# Altium schematic symbol library AD.SchLib: 50 symbols
Pins are listed as number, name and electrical type; pins without a type are passive.

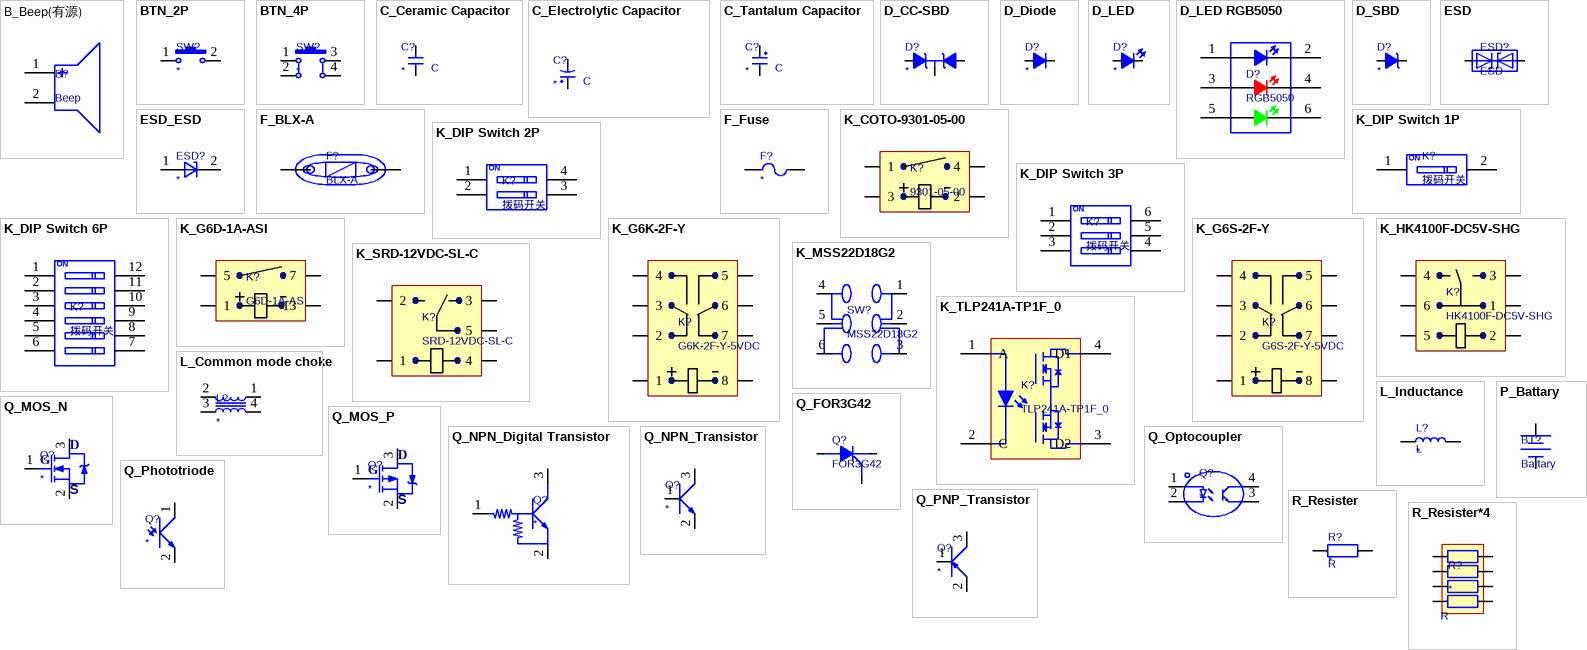
[diagram p0: symbols B_Beep(有源) to R_Resister*4]

## B_Beep(有源)
designator B?, comment Beep
有源蜂鸣器; Value: Beep; State: *; Value_Footprint: *
pins: 1 +, 2 -

## BTN_2P
designator SW?
按钮; Value_Footprint: SW; Value: *; State: *
pins: 1, 2

## BTN_4P
designator SW?
按钮; Value_Footprint: SW; Value: *; State: *
pins: 1, 2, 3, 4

## C_Ceramic Capacitor
designator C?  Value_Footprint: C
电容; Value: *; State: *
pins: 1, 2

## C_Electrolytic Capacitor
designator C?  Value_Footprint: C
铝电解电容; Value: *; State: *
pins: 1, 2

## C_Tantalum Capacitor
designator C?  Value_Footprint: C
钽电容; Value: *; State: *
pins: 1, 2

## D_CC-SBD
designator D?
共阴极肖基特二极管; Value: *; State: *; Value_Footprint: *
footprint SOT-23-3
pins: 1 A, 2 A, 3 K

## D_Diode
designator D?
二极管; Value: *; State: *; Value_Footprint: *
pins: 1 A, 2 K

## D_LED
designator D?
LED; Value: *; State: *; Value_Footprint: LED
pins: 1 A, 2 K

## D_LED RGB5050
designator D?, comment RGB5050
RGB三色灯; Value_Footprint: LED-DIP-3P; Value: RGB5050; State: *
pins: 1 B+, 2 B-, 3 R+, 4 R-, 5 G+, 6 G-

## D_SBD
designator D?
肖基特二极管; Value: *; State: *; Value_Footprint: *
pins: 1 A, 2 K

## ESD
designator ESD?
Value: ESD; State: *; Value_Footprint: *
pins: 1, 2

## ESD_ESD
designator ESD?
ESD; Value: *; State: *; Value_Footprint: *
pins: 1 A, 2 K

## F_BLX-A
designator F?, comment BLX-A
保险丝盒; Value: BLX-A; State: *; Value_Footprint: *
footprint F_BLX-A
pins: 1, 2

## F_Fuse
designator F?
保险丝; Value: *; State: *; Value_Footprint: *
pins: 1, 2

## K_COTO-9301-05-00
designator K?, comment 9301-05-00
簧片继电器; Value: 9301-05-00; State: *; Value_Footprint: 9301-05-00; ComponentLink1Description: DataSheet; ComponentLink1URL: https://atta.szlcsc.com/upload/public/pdf/source/231023/9300_series_reed_relay_datasheet-a12eb161463007c44212b6fff29854c6.pdf
pins: 1, 2, 3, 4

## K_DIP Switch 1P
designator K?, comment 拨码开关
1路拨码开关; Value: 拨码开关; State: *; Value_Footprint: *; ComponentLink1Description: DataSheet
pins: 1, 2
text: ON

## K_DIP Switch 2P
designator K?, comment 拨码开关
2路拨码开关; Value: 拨码开关; State: *; Value_Footprint: *; ComponentLink1Description: DataSheet
pins: 1, 2, 3, 4
text: ON

## K_DIP Switch 3P
designator K?, comment 拨码开关
3路拨码开关; Value: 拨码开关; State: *; Value_Footprint: *; ComponentLink1Description: DataSheet
pins: 1, 2, 3, 4, 5, 6
text: ON

## K_DIP Switch 6P
designator K?, comment 拨码开关
6路拨码开关; Value: 拨码开关; State: *; Value_Footprint: *; ComponentLink1Description: DataSheet
pins: 1, 2, 3, 4, 5, 6, 7, 8, 9, 10, 11, 12
text: ON

## K_G6D-1A-ASI
designator K?, comment G6D-1A-ASI
继电器; Value: G6D-1A-ASI; State: *; Value_Footprint: G6D-1A-ASI; ComponentLink1Description: DataSheet
pins: 1, 5, 7, 13

## K_G6K-2F-Y
designator K?, comment G6K-2F-Y-5VDC
继电器; Value: G6K-2F-Y-5VDC; State: *; Value_Footprint: G6K-2F-Y; ComponentLink1Description: DataSheet
pins: 1, 2, 3, 4, 5, 6, 7, 8

## K_G6S-2F-Y
designator K?, comment G6S-2F-Y-5VDC
继电器; Value: G6S-2F-Y-5VDC; State: *; Value_Footprint: G6S-2F-Y; ComponentLink1Description: DataSheet
pins: 1, 2, 3, 4, 5, 6, 7, 8

## K_HK4100F-DC5V-SHG
designator K?, comment HK4100F-DC5V-SHG
继电器; Value: HK4100F-DC5V-SHG; State: *; Value_Footprint: HK4100F-DC5V-SHG; ComponentLink1Description: DataSheet
pins: 1, 2, 3, 4, 5, 6

## K_MSS22D18G2
designator SW?, comment MSS22D18G2
继电器; Value: MSS22D18G2; State: *; Value_Footprint: MSS22D18G2; ComponentLink1Description: DataSheet; ComponentLink1URL: https://atta.szlcsc.com/upload/public/pdf/source/20190925/C431542_E050BEEB1B86229ABAC8A73C9D45E525.pdf
pins: 1, 2, 3, 4, 5, 6

## K_SRD-12VDC-SL-C
designator K?, comment SRD-12VDC-SL-C
继电器; Value: SRD-12VDC-SL-C; State: *; ComponentLink1Description: DataSheet; ComponentLink1URL: https://item.szlcsc.com/datasheet/SRD-12VDC-SL-C/31188.html?spm=sc.gb.xds.a___sc.gb.hd.ss&lcsc_vid=RAVeAlJfTwIMV1UFRgVXXgBSElAMVlNWTldWBgVTTgUxVlNVQVVXUlBWQVlcUTtW
pins: 1, 2, 3, 4, 5

## K_TLP241A-TP1F_0
designator K?, comment TLP241A-TP1F_0
逻辑信号光耦; Value_Footprint: G6K-2F-Y; Value: TLP241A-TP1F_0; State: *; ComponentLink1Description: DataSheet
pins: 1 A, 2 C, 3 D2, 4 D1

## L_Common mode choke
designator L?
共模电感; Value: *; State: *; Value_Footprint: *
pins: 1, 2, 3, 4

## L_Inductance
designator L?  Value_Footprint: L
电感; Value: *; State: *
pins: 1, 2

## P_Battary
designator BT?, comment Battary
电池; Value: Battary; State: *; ComponentLink1Description: DataSheet
pins: 1, 2

## Q_FOR3G42
designator Q?, comment FOR3G42
400V/0.8A单向可控硅; Value_Footprint: TO-92; Value: FOR3G42; State: *
pins: 1 G, 2 A, 3 K

## Q_MOS_N
designator Q?
NMOS; Value: *; State: *; Value_Footprint: *
pins: 1 G, 2 S, 3 D

## Q_MOS_P
designator Q?
PMOS; Value: *; State: *; Value_Footprint: *
pins: 1 G, 2 S, 3 D

## Q_NPN_Digital Transistor
designator Q?
数字三极管; Value: *; State: *; Value_Footprint: *
pins: 1 B, 2 E, 3 C

## Q_NPN_Transistor
designator Q?
NPN三极管; Value: *; State: *; Value_Footprint: *
pins: 1 B, 2 E, 3 C

## Q_Optocoupler
designator Q?
光耦; Value: *; State: *; Value_Footprint: *
pins: 1 A, 2 C, 3 E, 4 C

## Q_Phototriode
designator Q?
光电三极管 PT管; Value: *; State: *; Value_Footprint: *
pins: 1 C, 2 E

## Q_PNP_Transistor
designator Q?
PNP三极管; Value: *; State: *; Value_Footprint: *
pins: 1 B, 2 E, 3 C

## R_Resister
designator R?  Value_Footprint: R
电阻; Value: *; State: *
pins: 1, 2

## R_Resister*4
designator R?  Value_Footprint: R
排阻*4; Value: *; State: *
pins: 1, 2, 3, 4, 5, 6, 7, 8

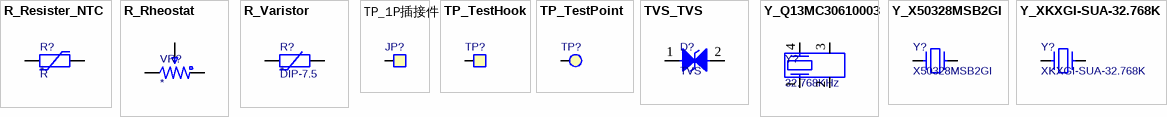
[diagram p1: symbols R_Resister_NTC to Y_XKXGI-SUA-32.768K]

## R_Resister_NTC
designator R?  Value_Footprint: R
NTC电阻; Value: *; State: *
pins: 1, 2

## R_Rheostat
designator VR?
可调电阻; Value: *; State: *; Value_Footprint: *
pins: 1, 2, 3

## R_Varistor
designator R?  Value_Footprint: DIP-7.5
压敏电阻; Value: *; State: *
pins: 1, 2

## TP_1P插接件
designator JP?, comment TestHook  (value not drawn)
1P插接件; Value: TestHook; Value_Footprint: *; State: *
pins: 1

## TP_TestHook
designator TP?, comment TestHook  (value not drawn)
测试钩; Value: TestHook; Value_Footprint: *; State: *
footprint RCT-0C
pins: 1

## TP_TestPoint
designator TP?, comment TestPoint  (value not drawn)
测点; Value: TestPoint; Value_Footprint: *; State: *
pins: 1

## TVS_TVS
designator D?, comment TVS
Value: TVS; State: *; Value_Footprint: *
pins: 1, 2

## Y_Q13MC30610003
designator Y?, comment 32.768KHz
Value_Footprint: MC-306; Value: 32.768KHz; State: *
footprint Y_MC-306
pins: 1, 2, 3, 4

## Y_X50328MSB2GI
designator Y?, comment X50328MSB2GI
8Mhz; Value: X50328MSB2GI; State: *; Value_Footprint: *
footprint Y_SMD5032-2P
pins: 1, 2

## Y_XKXGI-SUA-32.768K
designator Y?, comment XKXGI-SUA-32.768K
32.768K; Value: XKXGI-SUA-32.768K; State: *; Value_Footprint: *
footprint Y_SMD3215-2P
pins: 1, 2